# EAGLE library part SN75176B (library steves)
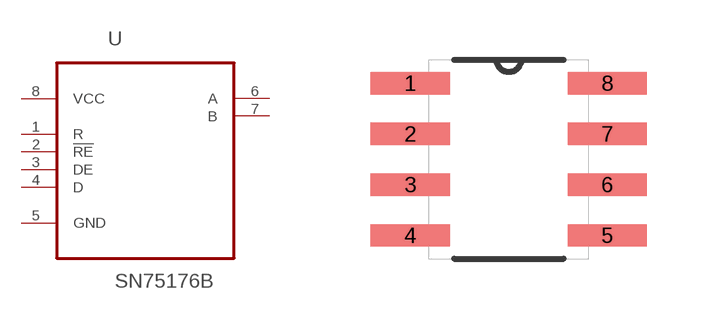
[diagram p34: symbol with the pads of SOIC8; footprint SOIC8]

Designator prefix -

## SN75176BD  [SOIC8]
1  R  in
2  !RE  in
3  DE  in
4  D  in
5  GND  pas
6  A  out
7  B  out
8  VCC  pwr

## Footprint SOIC8 (pad centres in mm)
smd 1.981 x 0.559: 1 -2.464,3.175; 2 -2.464,1.905; 3 -2.464,0.635; 4 -2.464,-0.635; 5 2.464,-0.635; 6 2.464,0.635; 7 2.464,1.905; 8 2.464,3.175